# EAGLE library part ESP8266 (library AndreBotelho)
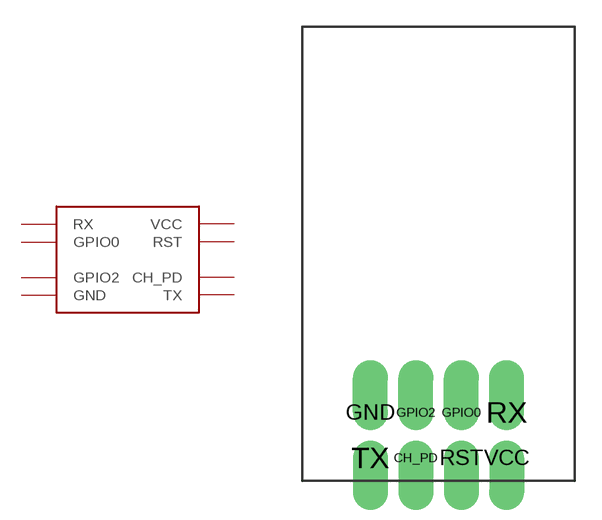
[diagram p9: symbol with the pads of ESP8266; footprint ESP8266]

Designator prefix -

## ESP8266  [ESP8266]
CH_PD  CH_PD
GND  GND
GPIO0  GPIO0
GPIO2  GPIO2
RST  RST
RX  RX
TX  TX
VCC  VCC

## Footprint ESP8266 (pad centres in mm)
drill 1.3 offset: CH_PD -1.27,-11.43; GND -3.81,-8.89; GPIO0 1.27,-8.89; GPIO2 -1.27,-8.89; RST 1.27,-11.43; RX 3.81,-8.89; TX -3.81,-11.43; VCC 3.81,-11.43